# Altium schematic symbol library SMCJ75A-13-F.SchLib: 2 symbols
Pins are listed as number, name and electrical type; pins without a type are passive.

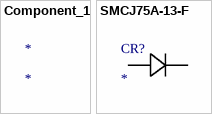
[diagram p0: symbols Component_1 to SMCJ75A-13-F]

## Component_1
designator *

## SMCJ75A-13-F
designator CR?
No Description Available; Mfr_Name: Diodes Inc
footprint SMC_DIO
pins: 1, 2